# Altium schematic symbol library Header 7.SchLib: 1 symbol
Pins are listed as number, name and electrical type; pins without a type are passive.

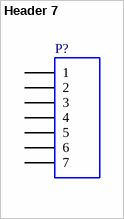
[diagram p0: symbol Header 7]

## Header 7
designator P?
Header, 7-Pin
pins: 1, 2, 3, 4, 5, 6, 7